# EAGLE library part LOGIC_LEVEL_CONVERTER (library eDNA)
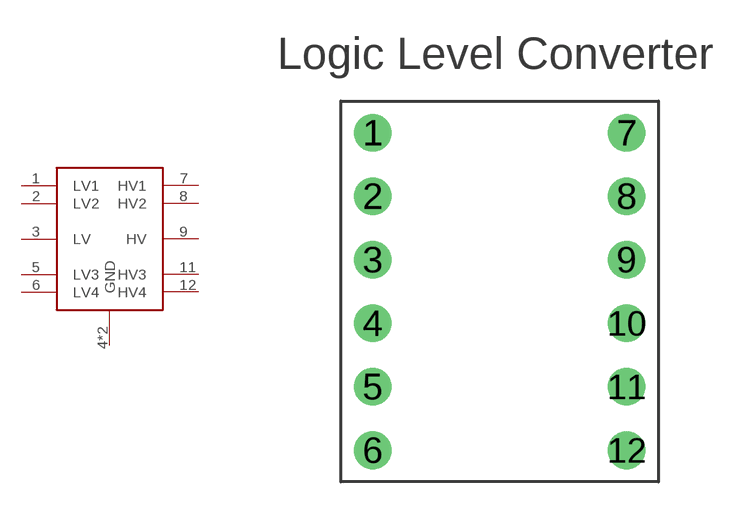
[diagram p6: symbol with the pads of LOGIC_LEVEL_CONVERTER; footprint LOGIC_LEVEL_CONVERTER]

Designator prefix -

## LOGIC_LEVEL_CONVERTER  [LOGIC_LEVEL_CONVERTER]
1  LV1
2  LV2
3  LV
4  GND
5  LV3
6  LV4
7  HV1
8  HV2
9  HV
10  GND
11  HV3
12  HV4

## Footprint LOGIC_LEVEL_CONVERTER (pad centres in mm)
drill 1: 1 -5.08,6.35; 2 -5.08,3.81; 3 -5.08,1.27; 4 -5.08,-1.27; 5 -5.08,-3.81; 6 -5.08,-6.35; 7 5.08,6.35; 8 5.08,3.81; 9 5.08,1.27; 10 5.08,-1.27; 11 5.08,-3.81; 12 5.08,-6.35